# Altium integrated library AD Amplifier Buffer.IntLib: 14 symbols
Pins are listed as number, name and electrical type; pins without a type are passive.

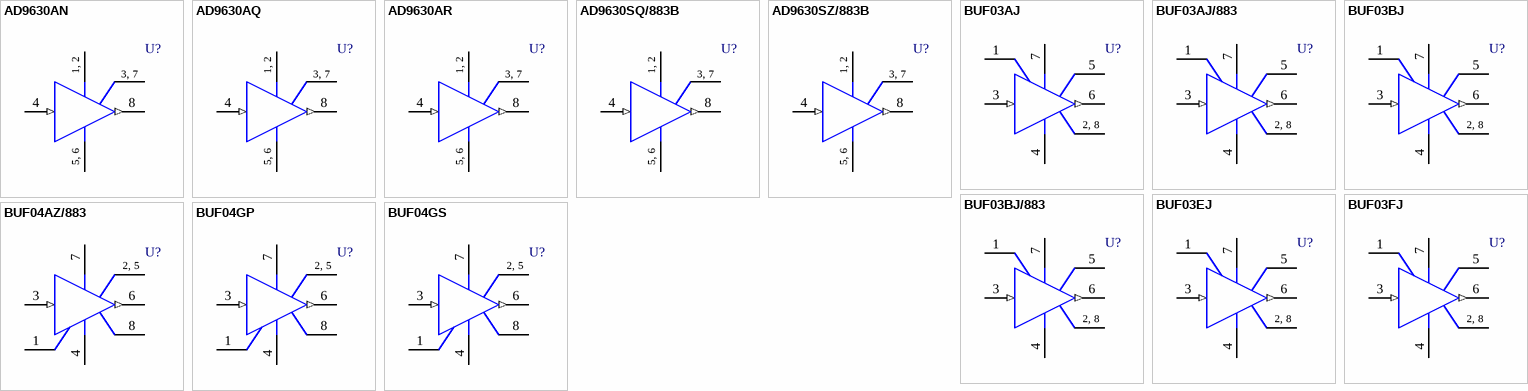
[diagram p0: symbols AD9630AN to BUF04GS]

## AD9630AN
designator U?
Low Distortion, 750MHz Closed-Loop Buffer Amplifier; Note: Pins 3 and 7 are not connected; Pins 2 and 6 are optional Supply Pins; Published: 8-Jun-2000; LatestRevisionDate: 04-Mar-2005; LatestRevisionNote: Stylized 3D Model Added.; DatasheetVersion: REV. A; PackageVersion: 1992; PackageReference: N-8_B; Publisher: Altium Limited; PackageDescription: DIP; 8 Leads; Row Spacing 7.62 mm; Pitch 2.54 mm; ComponentLink1Description: Manufacturer Link; ComponentLink1URL: http://www.analog.com/
footprint N-8_B (DIP; 8 Leads; Row Spacing 7.62 mm; Pitch 2.54 mm)
3D model Q8 (DIP; 8 Leads; Row Spacing 7.62 mm; Pitch 2.54 mm)
simulation model AD9630 (SUBCKT)
pins: 1 V+ (power), 2 V+ (power), 3 NC, 4 VIN (in), 5 V- (power), 6 V- (power), 7 NC, 8 VOUT (out)
text: 1, 2; 3, 7; 5, 6

## AD9630AQ
designator U?
Low Distortion, 750MHz Closed-Loop Buffer Amplifier; Note: Pins 3 and 7 are not connected; Pins 2 and 6 are optional Supply Pins; Published: 8-Jun-2000; LatestRevisionDate: 04-Mar-2005; LatestRevisionNote: Stylized 3D Model Added.; DatasheetVersion: REV. A; PackageVersion: 1998; PackageReference: Q-8; Publisher: Altium Limited; PackageDescription: DIP; 8 Leads; Row Spacing 7.62 mm; Pitch 2.54 mm; ComponentLink1Description: Manufacturer Link; ComponentLink1URL: http://www.analog.com/
footprint Q-8 (DIP; 8 Leads; Row Spacing 7.62 mm; Pitch 2.54 mm)
3D model Q8 (DIP; 8 Leads; Row Spacing 7.62 mm; Pitch 2.54 mm)
simulation model AD9630 (SUBCKT)
pins: 1 V+ (power), 2 V+ (power), 3 NC, 4 VIN (in), 5 V- (power), 6 V- (power), 7 NC, 8 VOUT (out)
text: 1, 2; 3, 7; 5, 6

## AD9630AR
designator U?
Low Distortion, 750MHz Closed-Loop Buffer Amplifier; Note: Pins 3 and 7 are not connected; Pins 2 and 6 are optional Supply Pins; Published: 8-Jun-2000; LatestRevisionDate: 13-Apr-2006; LatestRevisionNote: IPC-7351 Footprint Added.; DatasheetVersion: REV. A; PackageVersion: revA; PackageReference: R-8F; Publisher: Altium Limited; PackageDescription: 8-Pin Small Outline Integrated Circuit 1.27 mm Pitch; Code_IPC: SOIC127P600-8; ComponentLink1Description: Manufacturer Link; ComponentLink1URL: http://www.analog.com/
footprint R-8F_N (SOIC, 8-Leads, Body 4.9x3.9mm, Pitch 1.27mm, IPC Medium Density)
footprint R-8F_L (SOIC, 8-Leads, Body 4.9x3.9mm, Pitch 1.27mm, IPC High Density)
footprint R-8F_M (SOIC, 8-Leads, Body 4.9x3.9mm, Pitch 1.27mm, IPC Low Density)
3D model R-8F (8-Pin Small Outline Integrated Circuit 1.27 mm Pitch)
simulation model AD9630 (SUBCKT)
pins: 1 V+ (power), 2 V+ (power), 3 NC, 4 VIN (in), 5 V- (power), 6 V- (power), 7 NC, 8 VOUT (out)
text: 1, 2; 3, 7; 5, 6

## AD9630SQ/883B
designator U?
Low Distortion, 750MHz Closed-Loop Buffer Amplifier; Note: Pins 3 and 7 are not connected; Pins 2 and 6 are optional Supply Pins; Published: 8-Jun-2000; LatestRevisionDate: 04-Mar-2005; LatestRevisionNote: Stylized 3D Model Added.; DatasheetVersion: REV. B; PackageReference: Q-8_B; Publisher: Altium Limited; PackageDescription: DIP; 8 Leads; Row Spacing 7.62 mm; Pitch 2.54 mm; ComponentLink1Description: Manufacturer Link; ComponentLink1URL: http://www.analog.com/
footprint Q-8_B (DIP; 8 Leads; Row Spacing 7.62 mm; Pitch 2.54 mm)
3D model Q8-B (DIP; 8 Leads; Row Spacing 7.62 mm; Pitch 2.54 mm)
simulation model AD9630 (SUBCKT)
pins: 1 V+ (power), 2 V+ (power), 3 NC, 4 VIN (in), 5 V- (power), 6 V- (power), 7 NC, 8 VOUT (out)
text: 1, 2; 3, 7; 5, 6

## AD9630SZ/883B
designator U?
Low Distortion, 750MHz Closed-Loop Buffer Amplifier; Note: Pins 3 and 7 are not connected; Pins 2 and 6 are optional Supply Pins; Published: 8-Jun-2000; LatestRevisionDate: 13-Apr-2006; LatestRevisionNote: IPC-7351 Footprint Added.; DatasheetVersion: REV. B; PackageReference: Z-8; Publisher: Altium Limited; PackageDescription: 8-Pin Small Outline Package 1.27 mm Pitch; ComponentLink1Description: Manufacturer Link; ComponentLink1URL: http://www.analog.com/
footprint Z-8_N (SOP, 8-Leads, Body 6.5x6.5mm, Pitch 1.27mm, IPC Medium Density)
footprint Z-8_L (SOP, 8-Leads, Body 6.5x6.5mm, Pitch 1.27mm, IPC High Density)
footprint Z-8_M (SOP, 8-Leads, Body 6.5x6.5mm, Pitch 1.27mm, IPC Low Density)
3D model Z-8 (8-Pin Small Outline Package 1.27 mm Pitch)
simulation model AD9630 (SUBCKT)
pins: 1 V+ (power), 2 V+ (power), 3 NC, 4 VIN (in), 5 V- (power), 6 V- (power), 7 NC, 8 VOUT (out)
text: 1, 2; 3, 7; 5, 6

## BUF03AJ
designator U?
High-Speed Voltage Follower/Buffer; Note: Pins No 2 and 8 are not connected; Pin No 4 is connected to the case; Published: 8-Jun-2000; LatestRevisionDate: 17-Jul-2002; LatestRevisionNote: Re-released for DXP Platform.; DatasheetVersion: 1992; PackageVersion: 1990; PackageReference: H-08A; Publisher: Altium Limited; PackageDescription: Can; 8 Leads; Pin Circle Dia. 5.08 mm; Lead Dia. 0.53 mm (max); ComponentLink1Description: Manufacturer Link; ComponentLink1URL: http://www.analog.com/
footprint H-08A (Can; 8 Leads; Pin Circle Dia. 5.08 mm; Lead Dia. 0.53 mm (max))
pins: 1 NULL, 2 NC, 3 IN (in), 4 V- (power), 5 NULL, 6 OUT (out), 7 V+ (power), 8 NC
text: 2, 8

## BUF03AJ/883
designator U?
High-Speed Voltage Follower/Buffer; Note: Pins No 2 and 8 are not connected; Pin No 4 is connected to the case; Published: 8-Jun-2000; LatestRevisionDate: 17-Jul-2002; LatestRevisionNote: Re-released for DXP Platform.; DatasheetVersion: 1992; PackageVersion: 1990; PackageReference: H-08A; Publisher: Altium Limited; PackageDescription: Can; 8 Leads; Pin Circle Dia. 5.08 mm; Lead Dia. 0.53 mm (max); ComponentLink1Description: Manufacturer Link; ComponentLink1URL: http://www.analog.com/
footprint H-08A (Can; 8 Leads; Pin Circle Dia. 5.08 mm; Lead Dia. 0.53 mm (max))
pins: 1 NULL, 2 NC, 3 IN (in), 4 V- (power), 5 NULL, 6 OUT (out), 7 V+ (power), 8 NC
text: 2, 8

## BUF03BJ
designator U?
High-Speed Voltage Follower/Buffer; Note: Pins No 2 and 8 are not connected; Pin No 4 is connected to the case; Published: 8-Jun-2000; LatestRevisionDate: 17-Jul-2002; LatestRevisionNote: Re-released for DXP Platform.; DatasheetVersion: 1992; PackageVersion: 1990; PackageReference: H-08A; Publisher: Altium Limited; PackageDescription: Can; 8 Leads; Pin Circle Dia. 5.08 mm; Lead Dia. 0.53 mm (max); ComponentLink1Description: Manufacturer Link; ComponentLink1URL: http://www.analog.com/
footprint H-08A (Can; 8 Leads; Pin Circle Dia. 5.08 mm; Lead Dia. 0.53 mm (max))
pins: 1 NULL, 2 NC, 3 IN (in), 4 V- (power), 5 NULL, 6 OUT (out), 7 V+ (power), 8 NC
text: 2, 8

## BUF03BJ/883
designator U?
High-Speed Voltage Follower/Buffer; Note: Pins No 2 and 8 are not connected; Pin No 4 is connected to the case; Published: 8-Jun-2000; LatestRevisionDate: 17-Jul-2002; LatestRevisionNote: Re-released for DXP Platform.; DatasheetVersion: 1992; PackageVersion: 1990; PackageReference: H-08A; Publisher: Altium Limited; PackageDescription: Can; 8 Leads; Pin Circle Dia. 5.08 mm; Lead Dia. 0.53 mm (max); ComponentLink1Description: Manufacturer Link; ComponentLink1URL: http://www.analog.com/
footprint H-08A (Can; 8 Leads; Pin Circle Dia. 5.08 mm; Lead Dia. 0.53 mm (max))
pins: 1 NULL, 2 NC, 3 IN (in), 4 V- (power), 5 NULL, 6 OUT (out), 7 V+ (power), 8 NC
text: 2, 8

## BUF03EJ
designator U?
High-Speed Voltage Follower/Buffer; Note: Pins No 2 and 8 are not connected; Pin No 4 is connected to the case; Published: 8-Jun-2000; LatestRevisionDate: 17-Jul-2002; LatestRevisionNote: Re-released for DXP Platform.; DatasheetVersion: 1992; PackageVersion: 1990; PackageReference: H-08A; Publisher: Altium Limited; PackageDescription: Can; 8 Leads; Pin Circle Dia. 5.08 mm; Lead Dia. 0.53 mm (max); ComponentLink1Description: Manufacturer Link; ComponentLink1URL: http://www.analog.com/
footprint H-08A (Can; 8 Leads; Pin Circle Dia. 5.08 mm; Lead Dia. 0.53 mm (max))
pins: 1 NULL, 2 NC, 3 IN (in), 4 V- (power), 5 NULL, 6 OUT (out), 7 V+ (power), 8 NC
text: 2, 8

## BUF03FJ
designator U?
High-Speed Voltage Follower/Buffer; Note: Pins No 2 and 8 are not connected; Pin No 4 is connected to the case; Published: 8-Jun-2000; LatestRevisionDate: 17-Jul-2002; LatestRevisionNote: Re-released for DXP Platform.; DatasheetVersion: 1992; PackageVersion: 1990; PackageReference: H-08A; Publisher: Altium Limited; PackageDescription: Can; 8 Leads; Pin Circle Dia. 5.08 mm; Lead Dia. 0.53 mm (max); ComponentLink1Description: Manufacturer Link; ComponentLink1URL: http://www.analog.com/
footprint H-08A (Can; 8 Leads; Pin Circle Dia. 5.08 mm; Lead Dia. 0.53 mm (max))
pins: 1 NULL, 2 NC, 3 IN (in), 4 V- (power), 5 NULL, 6 OUT (out), 7 V+ (power), 8 NC
text: 2, 8

## BUF04AZ/883
designator U?
Closed-Loop High-Speed Buffer; Note: Pins 2 and 5 are not connected; Published: 8-Jun-2000; LatestRevisionDate: 04-Mar-2005; LatestRevisionNote: Stylized 3D Model Added.; DatasheetVersion: REV. 0; PackageVersion: 1998; PackageReference: Q-8; Publisher: Altium Limited; PackageDescription: DIP; 8 Leads; Row Spacing 7.62 mm; Pitch 2.54 mm; ComponentLink1Description: Manufacturer Link; ComponentLink1URL: http://www.analog.com/
footprint Q-8 (DIP; 8 Leads; Row Spacing 7.62 mm; Pitch 2.54 mm)
3D model Q8 (DIP; 8 Leads; Row Spacing 7.62 mm; Pitch 2.54 mm)
simulation model BUF04 (SUBCKT)
pins: 1 NUL, 2 NC, 3 IN (in), 4 V- (power), 5 NC, 6 OUT (out), 7 V+ (power), 8 NUL
text: 2, 5

## BUF04GP
designator U?
Closed-Loop High-Speed Buffer; Note: Pins 2 and 5 are not connected; Published: 8-Jun-2000; LatestRevisionDate: 04-Mar-2005; LatestRevisionNote: Stylized 3D Model Added.; DatasheetVersion: REV. 0; PackageReference: N-8_A; Publisher: Altium Limited; PackageDescription: DIP; 8 Leads; Row Spacing 7.62 mm; Pitch 2.54 mm; Code_JEDEC: MO-001-AN; ComponentLink1Description: Manufacturer Link; ComponentLink1URL: http://www.analog.com/
footprint N-8_A (DIP; 8 Leads; Row Spacing 7.62 mm; Pitch 2.54 mm)
3D model N8-A (DIP; 8 Leads; Row Spacing 7.62 mm; Pitch 2.54 mm)
simulation model BUF04 (SUBCKT)
pins: 1 NUL, 2 NC, 3 IN (in), 4 V- (power), 5 NC, 6 OUT (out), 7 V+ (power), 8 NUL
text: 2, 5

## BUF04GS
designator U?
Closed-Loop High-Speed Buffer; Note: Pins 2 and 5 are not connected; Published: 8-Jun-2000; LatestRevisionDate: 13-Apr-2006; LatestRevisionNote: IPC-7351 Footprint Added.; DatasheetVersion: REV. 0; PackageVersion: 2005; PackageReference: R-8; Publisher: Altium Limited; PackageDescription: 8-Pin Narrow Body Small Outline Integrated Circuit 1.27 mm Pitch; Code_JEDEC: MS-012-AA; Code_IPC: SOIC127P600-8; ComponentLink1Description: Manufacturer Link; ComponentLink1URL: http://www.analog.com/
footprint R-8_N (SOIC, 8-Leads, Body 4.9x3.9mm, Pitch 1.27mm, IPC Medium Density)
footprint R-8_L (SOIC, 8-Leads, Body 4.9x3.9mm, Pitch 1.27mm, IPC High Density)
footprint R-8_M (SOIC, 8-Leads, Body 4.9x3.9mm, Pitch 1.27mm, IPC Low Density)
3D model R-8 (8-Pin Narrow Body Small Outline Integrated Circuit 1.27 mm Pitch)
simulation model BUF04 (SUBCKT)
pins: 1 NUL, 2 NC, 3 IN (in), 4 V- (power), 5 NC, 6 OUT (out), 7 V+ (power), 8 NUL
text: 2, 5